# Altium schematic symbol library MySchlib.SchLib: 5 symbols
Pins are listed as number, name and electrical type; pins without a type are passive.

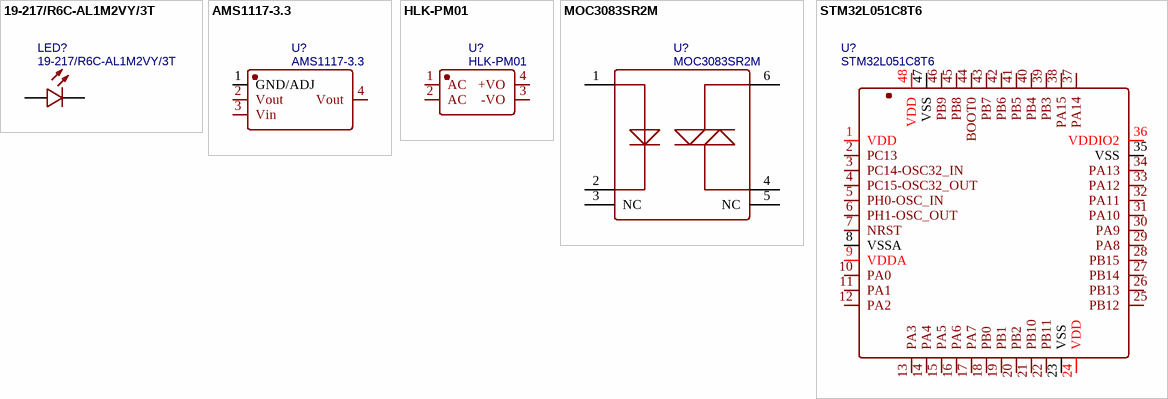
[diagram p0: symbols 19-217/R6C-AL1M2VY/3T to STM32L051C8T6]

## 19-217/R6C-AL1M2VY/3T
designator LED?
BOM_Manufacturer: EVERLIGHT; SMT Type: Extend; BOM_Supplier: LCSC; BOM_Manufacturer Part: 19-217/R6C-AL1M2VY/3T; image: //image.lceda.cn/szlcsc/C72044.jpg; BOM_Supplier Part: C72044; BOM_LCSC Assembly: Yes; spicePre: L; spiceSymbolName: 19-217/R6C-AL1M2VY/3T
footprint LED0603-R-RD
pins: 1 A, 2 C

## AMS1117-3.3
designator U?
BOM_Manufacturer: AMS; sourceId: dwIGgezVh; SMT Type: Basic; timeStamp: 1476261164; BOM_Supplier: LCSC; BOM_Manufacturer Part: AMS1117-3.3; BOM_LCSC Assembly: Yes; image: //image.lceda.cn/szlcsc/C6186.jpg; BOM_Supplier Part: C6186; spicePre: U; spiceSymbolName: AMS1117-3.3
footprint SOT-223-3_L6.5-W3.4-P2.30-LS7.0-BR
pins: 1 GND/ADJ, 2 Vout, 3 Vin, 4 Vout

## HLK-PM01
designator U?
BOM_Manufacturer: HI-LINK; Contributor: LCSC; BOM_Supplier: LCSC; BOM_Supplier Part: C209903; BOM_Manufacturer Part: HLK-PM01; spicePre: U; spiceSymbolName: HLK-PM01
footprint PWRM-TH_HLK-PM01
pins: 1 AC, 2 AC, 3 -VO, 4 +VO

## MOC3083SR2M
designator U?
BOM_Manufacturer: FAIRCHILD; SMT Type: Extend; BOM_Supplier: LCSC; BOM_Manufacturer Part: MOC3083SR2M; BOM_Supplier Part: C111561; BOM_LCSC Assembly: Yes; spicePre: U; spiceSymbolName: MOC3083SR2M
footprint SMD-6_L8.7-W6.5-P2.54-LS10.6-BL
pins: 1, 2, 3 NC, 4, 5 NC, 6

## STM32L051C8T6
designator U?
BOM_Manufacturer: STMicroelectronics; SMT Type: Extend; BOM_Supplier: LCSC; BOM_Manufacturer Part: STM32L051C8T6; BOM_Supplier Part: C110878; BOM_LCSC Assembly: Yes; spicePre: U; spiceSymbolName: STM32L051C8T6
footprint LQFP-48_L7.0-W7.0-P0.50-LS9.0-BL
pins: 1 VDD, 2 PC13, 3 PC14-OSC32_IN, 4 PC15-OSC32_OUT, 5 PH0-OSC_IN, 6 PH1-OSC_OUT, 7 NRST, 8 VSSA, 9 VDDA, 10 PA0, 11 PA1, 12 PA2, 13 PA3, 14 PA4, 15 PA5, 16 PA6, 17 PA7, 18 PB0, 19 PB1, 20 PB2, 21 PB10, 22 PB11, 23 VSS, 24 VDD, 25 PB12, 26 PB13, 27 PB14, 28 PB15, 29 PA8, 30 PA9, 31 PA10, 32 PA11, 33 PA12, 34 PA13, 35 VSS, 36 VDDIO2, 37 PA14, 38 PA15, 39 PB3, 40 PB4, 41 PB5, 42 PB6, 43 PB7, 44 BOOT0, 45 PB8, 46 PB9, 47 VSS, 48 VDD